# Altium schematic symbol library SN74AHC32.Schlib: 1 symbol
Pins are listed as number, name and electrical type; pins without a type are passive.

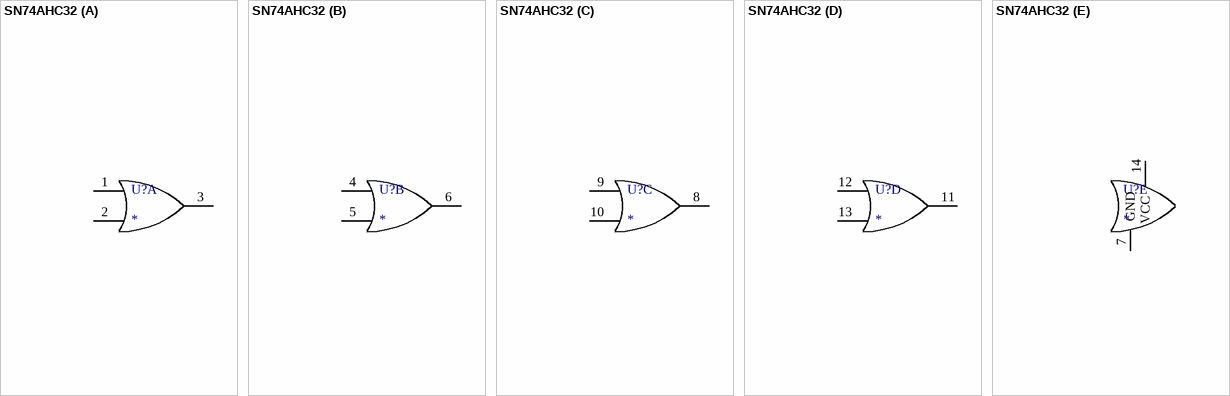
[diagram p0: symbol SN74AHC32]

## SN74AHC32
designator U?
Quad 2-input OR gate
part A pins: 1 1A, 2 1B, 3 1Y
part B pins: 4 2A, 5 2B, 6 2Y
part C pins: 8 3Y, 9 3A, 10 3B
part D pins: 11 4Y, 12 4A, 13 4B
part E pins: 7 GND, 14 VCC